# Altium footprint library 768290002.PcbLib: 1 footprints
Each footprint in its own frame and in the unit in brackets; x right, y up, seen from the top. Pads: shape width x height; smd on the part's side, far side on the other; paste and mask are expansions set on the pad; w line width, h text height; cw(c..) or ccw(c..) is an arc to the next point about the centre after c.
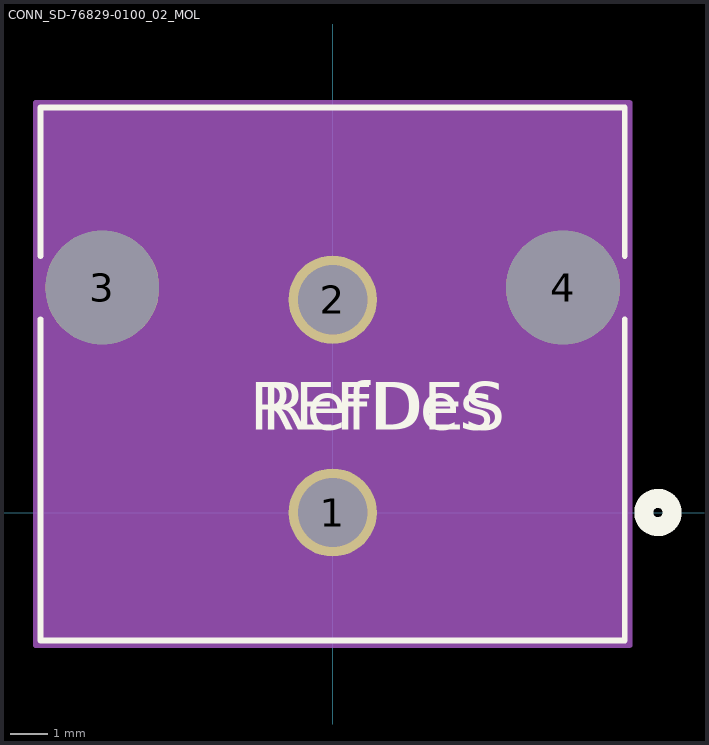
[diagram p0: the footprint, top view; thin cyan lines are the x and y axes]

## CONN_SD-76829-0100_02_MOL [mil]
pads (4):
  round 93 / inner round 60 / far side round 93 hole 73 paste-46.5 mask+0: 1(0,0) 2(0,224.41)
  round 120 / inner round 60 / far side round 120 hole 120 unplated paste+0 mask+0: 3(-242.91,237.2) 4(242.91,237.2)
Top Overlay:
  circle w20: c343,0 r15
  lines w6: -308,203.93 -308,-134.95 308,-134.95 308,203.93 ; -308,270.48 -308,427.05 308,427.05 308,270.48
  text "RefDes" at -75,87.2 h50
  text "REFDES" at -87.5,87.2 h50
Bottom Overlay:
  circle w20: c343,0 r15
Mechanical 13:
  circle w20: c0,0 r15
  lines w1: -303,-129.95 303,-129.95 303,422.05 -303,422.05 -303,-129.95
  text "RefDes2" at -87.5,87.2 h50
Mechanical 15:
  region: 313,432.05 -313,432.05 -313,-139.95 313,-139.95
  lines w6: -313,-139.95 -313,432.05 313,432.05 313,-139.95 -313,-139.95